# Altium schematic symbol library 74XX244.SchLib: 1 symbol
Pins are listed as number, name and electrical type; pins without a type are passive.

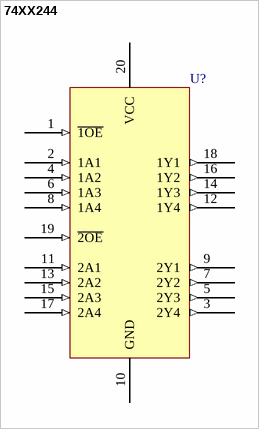
[diagram p0: symbol 74XX244]

## 74XX244
designator U?
signal-integrity model Model Name (Model Description)
pins: 1 ~{1OE} (in), 2 1A1 (in), 3 2Y4 (out), 4 1A2 (in), 5 2Y3 (out), 6 1A3 (in), 7 2Y2 (out), 8 1A4 (in), 9 2Y1 (out), 10 GND (power), 11 2A1 (in), 12 1Y4 (out), 13 2A2 (in), 14 1Y3 (out), 15 2A3 (in), 16 1Y2 (out), 17 2A4 (in), 18 1Y1 (out), 19 ~{2OE} (in), 20 VCC (power)